# Altium schematic symbol library Capacitors-0805.SchLib: 2 symbols
Pins are listed as number, name and electrical type; pins without a type are passive.

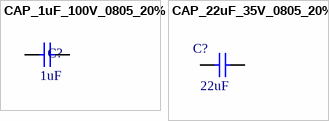
[diagram p0: symbols CAP_1uF_100V_0805_20% to CAP_22uF_35V_0805_20%]

## CAP_1uF_100V_0805_20%
designator C?, comment 1uF
1uF 100V 20% 0805 (2012 metric); Manufacturer: TDK; PartNumber: C2012X7S2A474M125AE; Mounting Technology: Surface Mount; Voltage: 100V; Package Description: 0805 (2012 Metric); Package Reference: 0805; Tolerance: 20%; Value: 1uF
footprint C0805[2012X120] (Chip Capacitor, Body 2.0x1.25mm)
pins: 1, 2

## CAP_22uF_35V_0805_20%
designator C?, comment value 22uF  (hidden comment: 22uF 35V 0805)
22uF 35V 20% 0805 (2012 Metric); PartNumber: C2012X5R1V226M125AC; Manufacturer: TDK; Mounting Technology: Surface Mount; PackageReference: 0805; PackageDescription: 0805 (2012 Metric); Voltage: 35V; Tolerance: 20%
footprint C0805[2012X120] (Chip Capacitor, Body 2.0x1.25mm)
pins: 1, 2